# Altium integrated library Analog Devices Data Converters Digital-to-Analog Converters.IntLib: 2231 symbols (part 25 of 181)
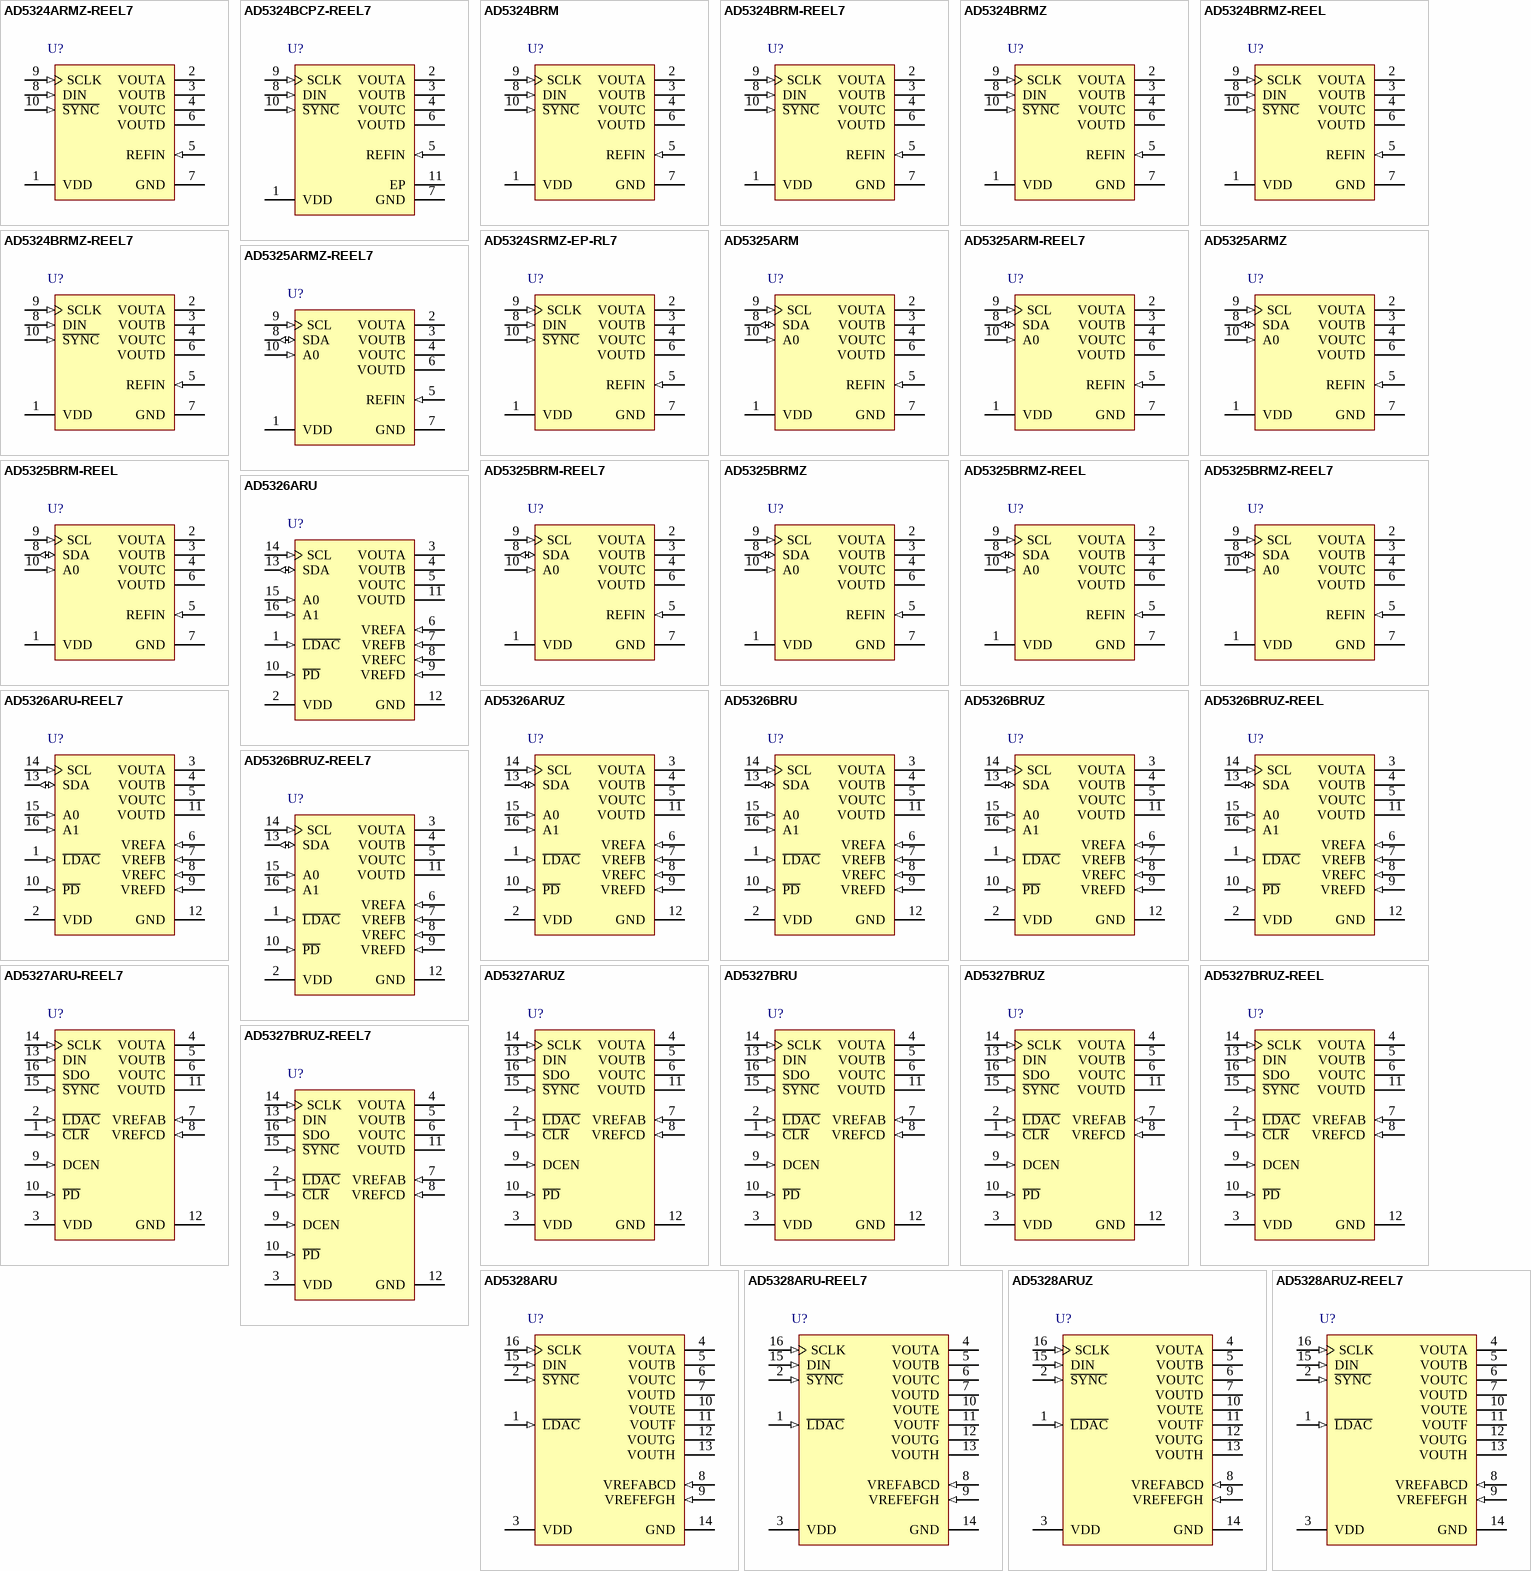
[diagram p138: symbols AD5324ARMZ-REEL7 to AD5328ARUZ-REEL7]

## AD5327BRUZ-REEL7
designator U?
Quad 12-Bit Voltage Output Digital-to-Analog Converter, 2.5 to 5.5 V, 400 uA, -40 to +105 degC, RU-16, Pb-Free, Reel; Generic Part Number: AD5327; Manufacturer: Analog Devices; PartNumber: AD5327BRUZ-REEL7; # DAC Outputs: 4; Max V+: 5.5V; Op Pwr Diss: 4.5mW; Resolution (Bits): 12; Settling Time: 8µs; Single Supply: Yes; DatasheetVersion: Rev.C; PackageVersion: Nov-2002; PackageReference: RU-16; PackageDescription: 16-Lead Thin Shrink Small Outline Package [TSSOP]; Supplier 1: Digi-Key; Supplier Part Number 1: AD5327BRUZ-REEL7-ND; Supplier 2: Mouser; Supplier Part Number 2: 584-AD5327BRUZ-R7; Packing: Reel; RoHS: Y; Mounting Technology: Surface Mount; Code_JEDEC: MO-153-AB; ComponentLink1Description: Manufacturer URL; ComponentLink1URL: http://www.analog.com/en/index.html; ComponentLink2Description: Datasheet; ComponentLink2URL: http://www.analog.com/static/imported-files/data_sheets/AD5307_5317_5327.pdf; ComponentLink3Description: Package Specification; ComponentLink3URL: http://www.analog.com/static/imported-files/packages/36244347913743854010197452789RU16.pdf; ComponentLink4Description: Product URL; ComponentLink4URL: http://www.analog.com/en/digital-to-analog-converters/da-converters/ad5327/products/product.html
footprint RU-16_N (TSOP, 16-Leads, Body 5x4.4mm, Pitch 0.65mm, IPC Medium Density)
footprint RU-16_L (TSOP, 16-Leads, Body 5x4.4mm, Pitch 0.65mm, IPC High Density)
footprint RU-16_M (TSOP, 16-Leads, Body 5x4.4mm, Pitch 0.65mm, IPC Low Density)
pins: 1 ~{CLR} (in) "Active Low Control Input. Loads all 0s to all input and DAC registers. Therefore, the outputs also go to 0 V.", 2 ~{LDAC} (in) "Active Low Control Input. Transfers the contents of the input registers to their respective DAC registers. Pulsing this pin low allows any or all DAC registers to be updated if the input registers have new data. This allows (See Datasheet)", 3 VDD (power) "Power Supply Input. These parts can be operated from 2.5 V to 5.5 V, and the supply should be decoupled with a 10 uF capacitor in parallel with a 0.1 uF capacitor to GND.", 4 VOUTA (hiz) "Buffered Analog Output Voltage from DAC A. The output amplifier has rail-to-rail operation.", 5 VOUTB (hiz) "Buffered Analog Output Voltage from DAC B. The output amplifier has rail-to-rail operation.", 6 VOUTC (hiz) "Buffered Analog Output Voltage from DAC C. The output amplifier has rail-to-rail operation.", 7 VREFAB (in) "Reference Input Pin for DAC A and DAC B. It can be configured as a buffered or unbuffered input to each or both of the DACs, depending on the state of the BUF bits in the serial input words to DAC A and DAC B. It has an (See Datasheet)", 8 VREFCD (in) "Reference Input Pin for DAC C and DAC D. It can be configured as a buffered or unbuffered input to each or both of the DACs, depending on the state of the BUF bits in the serial input words to DAC C and DAC D. It has an (See Datasheet)", 9 DCEN (in) "Enables the Daisy-Chaining Option. It should be tied high if the part is being used in a daisy chain, and tied low if it is being used in standalone mode.", 10 ~{PD} (in) "Active Low Control Input. It acts like a hardware power-down option. All DACs go into power-down mode when this pin is tied low. The DAC outputs go into a high impedance state, and the current consumption of the part drops (See Datasheet)", 11 VOUTD (hiz) "Buffered Analog Output Voltage from DAC D. The output amplifier has rail-to-rail operation.", 12 GND (power) "Ground Reference Point for All Circuitry on the Part.", 13 DIN (in) "Serial Data Input. These devices each have a 16-bit shift register. Data is clocked into the register on the falling edge of the serial clock input. The DIN input buffer is powered down after each write cycle.", 14 SCLK (in) "Serial Clock Input. Data is clocked into the input shift register on the falling edge of the serial clock input. Data can be transferred at rates of up to 30 MHz. The SCLK input buffer is powered down after each write cycle.", 15 ~{SYNC} (in) "Active Low Control Input. This is the frame synchronization signal for the input data. When S\Y\N\C\ goes low, it powers on the SCLK and DIN buffers and enables the input shift register. Data is transferred in on the falling (See Datasheet)", 16 SDO (hiz) "Serial Data Output. Can be used for daisy-chaining a number of these devices together or for reading back the data in the shift register for diagnostic purposes. The serial data is transferred on the rising edge of SCLK and (See Datasheet)"

## AD5328ARU
designator U?
Octal 12-Bit Voltage Output Digital-to-Analog Converter, 2.5 to 5.5 V, -40 to +125 degC, RU-16, Tube; Generic Part Number: AD5328; Manufacturer: Analog Devices; PartNumber: AD5328ARU; # DAC Outputs: 8; Max V+: 5.5V; Op Pwr Diss: 5mW; Resolution (Bits): 12; Settling Time: 6µs; Single Supply: Yes; DatasheetVersion: Rev.F; PackageVersion: Nov-2002; PackageReference: RU-16; PackageDescription: 16-Lead Thin Shrink Small Outline Package [TSSOP]; Supplier 1: Digi-Key; Supplier Part Number 1: AD5328ARU-ND; Supplier 2: Mouser; Supplier Part Number 2: 584-AD5328ARU; Packing: Tube; RoHS: N; Mounting Technology: Surface Mount; Code_JEDEC: MO-153-AB; ComponentLink1Description: Manufacturer URL; ComponentLink1URL: http://www.analog.com/en/index.html; ComponentLink2Description: Datasheet; ComponentLink2URL: http://www.analog.com/static/imported-files/data_sheets/AD5308_5318_5328.pdf; ComponentLink3Description: Package Specification; ComponentLink3URL: http://www.analog.com/static/imported-files/packages/36244347913743854010197452789RU16.pdf; ComponentLink4Description: Product URL; ComponentLink4URL: http://www.analog.com/en/digital-to-analog-converters/da-converters/ad5328/products/product.html
footprint RU-16_N (TSOP, 16-Leads, Body 5x4.4mm, Pitch 0.65mm, IPC Medium Density)
footprint RU-16_L (TSOP, 16-Leads, Body 5x4.4mm, Pitch 0.65mm, IPC High Density)
footprint RU-16_M (TSOP, 16-Leads, Body 5x4.4mm, Pitch 0.65mm, IPC Low Density)
pins: 1 ~{LDAC} (in) "This active low control input transfers the contents of the input registers to their respective DAC registers. Pulsing this pin low allows any or all DAC registers to be updated if the input registers have new data. This (See Datasheet)", 2 ~{SYNC} (in) "Active Low Control Input. This is the frame synchronization signal for the input data. When S\Y\N\C\ goes low, it powers on the SCLK and DIN buffers and enables the input shift register. Data is transferred in on the falling (See Datasheet)", 3 VDD (power) "Power Supply Input. These parts can be operated from 2.5 V to 5.5 V, and the supply should be decoupled with a 10 uF capacitor in parallel with a 0.1 uF capacitor to GND.", 4 VOUTA (hiz) "Buffered Analog Output Voltage from DAC A. The output amplifier has rail-to-rail operation.", 5 VOUTB (hiz) "Buffered Analog Output Voltage from DAC B. The output amplifier has rail-to-rail operation.", 6 VOUTC (hiz) "Buffered Analog Output Voltage from DAC C. The output amplifier has rail-to-rail operation.", 7 VOUTD (hiz) "Buffered Analog Output Voltage from DAC D. The output amplifier has rail-to-rail operation.", 8 VREFABCD (in) "Reference Input Pin for DACs A, B, C, and D. It can be configured as a buffered, unbuffered, or VDD input to the four DACs, depending on the state of the BUF and VDD control bits. It has an input range from 0.25 V to VDD in (See Datasheet)", 9 VREFEFGH (in) "Reference Input Pin for DACs E, F, G, and H. It can be configured as a buffered, unbuffered, or VDD input to the four DACs, depending on the state of the BUF and VDD control bits. It has an input range from 0.25 V to VDD in (See Datasheet)", 10 VOUTE (hiz) "Buffered Analog Output Voltage from DAC E. The output amplifier has rail-to-rail operation.", 11 VOUTF (hiz) "Buffered Analog Output Voltage from DAC F. The output amplifier has rail-to-rail operation.", 12 VOUTG (hiz) "Buffered Analog Output Voltage from DAC G. The output amplifier has rail-to-rail operation.", 13 VOUTH (hiz) "Buffered Analog Output Voltage from DAC H. The output amplifier has rail-to-rail operation.", 14 GND (power) "Ground Reference Point for All Circuitry on the Part.", 15 DIN (in) "Serial Data Input. This device has a 16-bit shift register. Data is clocked into the register on the falling edge of the serial clock input. The DIN input buffer is powered down after each write cycle.", 16 SCLK (in) "Serial Clock Input. Data is clocked into the input shift register on the falling edge of the serial clock input. Data can be transferred at rates up to 30 MHz. The SCLK input buffer is powered down after each write cycle."

## AD5328ARU-REEL7
designator U?
Octal 12-Bit Voltage Output Digital-to-Analog Converter, 2.5 to 5.5 V, -40 to +125 degC, RU-16, Reel; Generic Part Number: AD5328; Manufacturer: Analog Devices; PartNumber: AD5328ARU-REEL7; # DAC Outputs: 8; Max V+: 5.5V; Op Pwr Diss: 5mW; Resolution (Bits): 12; Settling Time: 6µs; Single Supply: Yes; DatasheetVersion: Rev.F; PackageVersion: Nov-2002; PackageReference: RU-16; PackageDescription: 16-Lead Thin Shrink Small Outline Package [TSSOP]; Supplier 1: Mouser; Supplier Part Number 1: N/A; Packing: Reel; RoHS: N; Mounting Technology: Surface Mount; Code_JEDEC: MO-153-AB; ComponentLink1Description: Manufacturer URL; ComponentLink1URL: http://www.analog.com/en/index.html; ComponentLink2Description: Datasheet; ComponentLink2URL: http://www.analog.com/static/imported-files/data_sheets/AD5308_5318_5328.pdf; ComponentLink3Description: Package Specification; ComponentLink3URL: http://www.analog.com/static/imported-files/packages/36244347913743854010197452789RU16.pdf; ComponentLink4Description: Product URL; ComponentLink4URL: http://www.analog.com/en/digital-to-analog-converters/da-converters/ad5328/products/product.html
footprint RU-16_N (TSOP, 16-Leads, Body 5x4.4mm, Pitch 0.65mm, IPC Medium Density)
footprint RU-16_L (TSOP, 16-Leads, Body 5x4.4mm, Pitch 0.65mm, IPC High Density)
footprint RU-16_M (TSOP, 16-Leads, Body 5x4.4mm, Pitch 0.65mm, IPC Low Density)
pins: 1 ~{LDAC} (in) "This active low control input transfers the contents of the input registers to their respective DAC registers. Pulsing this pin low allows any or all DAC registers to be updated if the input registers have new data. This (See Datasheet)", 2 ~{SYNC} (in) "Active Low Control Input. This is the frame synchronization signal for the input data. When S\Y\N\C\ goes low, it powers on the SCLK and DIN buffers and enables the input shift register. Data is transferred in on the falling (See Datasheet)", 3 VDD (power) "Power Supply Input. These parts can be operated from 2.5 V to 5.5 V, and the supply should be decoupled with a 10 uF capacitor in parallel with a 0.1 uF capacitor to GND.", 4 VOUTA (hiz) "Buffered Analog Output Voltage from DAC A. The output amplifier has rail-to-rail operation.", 5 VOUTB (hiz) "Buffered Analog Output Voltage from DAC B. The output amplifier has rail-to-rail operation.", 6 VOUTC (hiz) "Buffered Analog Output Voltage from DAC C. The output amplifier has rail-to-rail operation.", 7 VOUTD (hiz) "Buffered Analog Output Voltage from DAC D. The output amplifier has rail-to-rail operation.", 8 VREFABCD (in) "Reference Input Pin for DACs A, B, C, and D. It can be configured as a buffered, unbuffered, or VDD input to the four DACs, depending on the state of the BUF and VDD control bits. It has an input range from 0.25 V to VDD in (See Datasheet)", 9 VREFEFGH (in) "Reference Input Pin for DACs E, F, G, and H. It can be configured as a buffered, unbuffered, or VDD input to the four DACs, depending on the state of the BUF and VDD control bits. It has an input range from 0.25 V to VDD in (See Datasheet)", 10 VOUTE (hiz) "Buffered Analog Output Voltage from DAC E. The output amplifier has rail-to-rail operation.", 11 VOUTF (hiz) "Buffered Analog Output Voltage from DAC F. The output amplifier has rail-to-rail operation.", 12 VOUTG (hiz) "Buffered Analog Output Voltage from DAC G. The output amplifier has rail-to-rail operation.", 13 VOUTH (hiz) "Buffered Analog Output Voltage from DAC H. The output amplifier has rail-to-rail operation.", 14 GND (power) "Ground Reference Point for All Circuitry on the Part.", 15 DIN (in) "Serial Data Input. This device has a 16-bit shift register. Data is clocked into the register on the falling edge of the serial clock input. The DIN input buffer is powered down after each write cycle.", 16 SCLK (in) "Serial Clock Input. Data is clocked into the input shift register on the falling edge of the serial clock input. Data can be transferred at rates up to 30 MHz. The SCLK input buffer is powered down after each write cycle."

## AD5328ARUZ
designator U?
Octal 12-Bit Voltage Output Digital-to-Analog Converter, 2.5 to 5.5 V, -40 to +125 degC, RU-16, Pb-Free, Tube; Generic Part Number: AD5328; Manufacturer: Analog Devices; PartNumber: AD5328ARUZ; # DAC Outputs: 8; Max V+: 5.5V; Op Pwr Diss: 5mW; Resolution (Bits): 12; Settling Time: 6µs; Single Supply: Yes; DatasheetVersion: Rev.F; PackageVersion: Nov-2002; PackageReference: RU-16; PackageDescription: 16-Lead Thin Shrink Small Outline Package [TSSOP]; Supplier 1: Digi-Key; Supplier Part Number 1: AD5328ARUZ-ND; Supplier 2: Farnell; Supplier Part Number 2: 1438369; Supplier 3: Newark; Supplier Part Number 3: 59K3952; Supplier 4: Mouser; Supplier Part Number 4: 584-AD5328ARUZ; Packing: Tube; RoHS: Y; Mounting Technology: Surface Mount; Code_JEDEC: MO-153-AB; ComponentLink1Description: Manufacturer URL; ComponentLink1URL: http://www.analog.com/en/index.html; ComponentLink2Description: Datasheet; ComponentLink2URL: http://www.analog.com/static/imported-files/data_sheets/AD5308_5318_5328.pdf; ComponentLink3Description: Package Specification; ComponentLink3URL: http://www.analog.com/static/imported-files/packages/36244347913743854010197452789RU16.pdf; ComponentLink4Description: Product URL; ComponentLink4URL: http://www.analog.com/en/digital-to-analog-converters/da-converters/ad5328/products/product.html
footprint RU-16_N (TSOP, 16-Leads, Body 5x4.4mm, Pitch 0.65mm, IPC Medium Density)
footprint RU-16_L (TSOP, 16-Leads, Body 5x4.4mm, Pitch 0.65mm, IPC High Density)
footprint RU-16_M (TSOP, 16-Leads, Body 5x4.4mm, Pitch 0.65mm, IPC Low Density)
pins: 1 ~{LDAC} (in) "This active low control input transfers the contents of the input registers to their respective DAC registers. Pulsing this pin low allows any or all DAC registers to be updated if the input registers have new data. This (See Datasheet)", 2 ~{SYNC} (in) "Active Low Control Input. This is the frame synchronization signal for the input data. When S\Y\N\C\ goes low, it powers on the SCLK and DIN buffers and enables the input shift register. Data is transferred in on the falling (See Datasheet)", 3 VDD (power) "Power Supply Input. These parts can be operated from 2.5 V to 5.5 V, and the supply should be decoupled with a 10 uF capacitor in parallel with a 0.1 uF capacitor to GND.", 4 VOUTA (hiz) "Buffered Analog Output Voltage from DAC A. The output amplifier has rail-to-rail operation.", 5 VOUTB (hiz) "Buffered Analog Output Voltage from DAC B. The output amplifier has rail-to-rail operation.", 6 VOUTC (hiz) "Buffered Analog Output Voltage from DAC C. The output amplifier has rail-to-rail operation.", 7 VOUTD (hiz) "Buffered Analog Output Voltage from DAC D. The output amplifier has rail-to-rail operation.", 8 VREFABCD (in) "Reference Input Pin for DACs A, B, C, and D. It can be configured as a buffered, unbuffered, or VDD input to the four DACs, depending on the state of the BUF and VDD control bits. It has an input range from 0.25 V to VDD in (See Datasheet)", 9 VREFEFGH (in) "Reference Input Pin for DACs E, F, G, and H. It can be configured as a buffered, unbuffered, or VDD input to the four DACs, depending on the state of the BUF and VDD control bits. It has an input range from 0.25 V to VDD in (See Datasheet)", 10 VOUTE (hiz) "Buffered Analog Output Voltage from DAC E. The output amplifier has rail-to-rail operation.", 11 VOUTF (hiz) "Buffered Analog Output Voltage from DAC F. The output amplifier has rail-to-rail operation.", 12 VOUTG (hiz) "Buffered Analog Output Voltage from DAC G. The output amplifier has rail-to-rail operation.", 13 VOUTH (hiz) "Buffered Analog Output Voltage from DAC H. The output amplifier has rail-to-rail operation.", 14 GND (power) "Ground Reference Point for All Circuitry on the Part.", 15 DIN (in) "Serial Data Input. This device has a 16-bit shift register. Data is clocked into the register on the falling edge of the serial clock input. The DIN input buffer is powered down after each write cycle.", 16 SCLK (in) "Serial Clock Input. Data is clocked into the input shift register on the falling edge of the serial clock input. Data can be transferred at rates up to 30 MHz. The SCLK input buffer is powered down after each write cycle."

## AD5328ARUZ-REEL7
designator U?
Octal 12-Bit Voltage Output Digital-to-Analog Converter, 2.5 to 5.5 V, -40 to +125 degC, RU-16, Pb-Free, Reel; Generic Part Number: AD5328; Manufacturer: Analog Devices; PartNumber: AD5328ARUZ-REEL7; # DAC Outputs: 8; Max V+: 5.5V; Op Pwr Diss: 5mW; Resolution (Bits): 12; Settling Time: 6µs; Single Supply: Yes; DatasheetVersion: Rev.F; PackageVersion: Nov-2002; PackageReference: RU-16; PackageDescription: 16-Lead Thin Shrink Small Outline Package [TSSOP]; Supplier 1: Digi-Key; Supplier Part Number 1: AD5328ARUZ-REEL7TR-ND; Supplier 2: Digi-Key; Supplier Part Number 2: AD5328ARUZ-REEL7CT-ND; Supplier 3: Digi-Key; Supplier Part Number 3: AD5328ARUZ-REEL7DKR-ND; Supplier 4: Newark; Supplier Part Number 4: 59K3953; Supplier 5: Mouser; Supplier Part Number 5: 584-AD5328ARUZ-R7; Packing: Reel; RoHS: Y; Mounting Technology: Surface Mount; Code_JEDEC: MO-153-AB; ComponentLink1Description: Manufacturer URL; ComponentLink1URL: http://www.analog.com/en/index.html; ComponentLink2Description: Datasheet; ComponentLink2URL: http://www.analog.com/static/imported-files/data_sheets/AD5308_5318_5328.pdf; ComponentLink3Description: Package Specification; ComponentLink3URL: http://www.analog.com/static/imported-files/packages/36244347913743854010197452789RU16.pdf; ComponentLink4Description: Product URL; ComponentLink4URL: http://www.analog.com/en/digital-to-analog-converters/da-converters/ad5328/products/product.html
footprint RU-16_N (TSOP, 16-Leads, Body 5x4.4mm, Pitch 0.65mm, IPC Medium Density)
footprint RU-16_L (TSOP, 16-Leads, Body 5x4.4mm, Pitch 0.65mm, IPC High Density)
footprint RU-16_M (TSOP, 16-Leads, Body 5x4.4mm, Pitch 0.65mm, IPC Low Density)
pins: 1 ~{LDAC} (in) "This active low control input transfers the contents of the input registers to their respective DAC registers. Pulsing this pin low allows any or all DAC registers to be updated if the input registers have new data. This (See Datasheet)", 2 ~{SYNC} (in) "Active Low Control Input. This is the frame synchronization signal for the input data. When S\Y\N\C\ goes low, it powers on the SCLK and DIN buffers and enables the input shift register. Data is transferred in on the falling (See Datasheet)", 3 VDD (power) "Power Supply Input. These parts can be operated from 2.5 V to 5.5 V, and the supply should be decoupled with a 10 uF capacitor in parallel with a 0.1 uF capacitor to GND.", 4 VOUTA (hiz) "Buffered Analog Output Voltage from DAC A. The output amplifier has rail-to-rail operation.", 5 VOUTB (hiz) "Buffered Analog Output Voltage from DAC B. The output amplifier has rail-to-rail operation.", 6 VOUTC (hiz) "Buffered Analog Output Voltage from DAC C. The output amplifier has rail-to-rail operation.", 7 VOUTD (hiz) "Buffered Analog Output Voltage from DAC D. The output amplifier has rail-to-rail operation.", 8 VREFABCD (in) "Reference Input Pin for DACs A, B, C, and D. It can be configured as a buffered, unbuffered, or VDD input to the four DACs, depending on the state of the BUF and VDD control bits. It has an input range from 0.25 V to VDD in (See Datasheet)", 9 VREFEFGH (in) "Reference Input Pin for DACs E, F, G, and H. It can be configured as a buffered, unbuffered, or VDD input to the four DACs, depending on the state of the BUF and VDD control bits. It has an input range from 0.25 V to VDD in (See Datasheet)", 10 VOUTE (hiz) "Buffered Analog Output Voltage from DAC E. The output amplifier has rail-to-rail operation.", 11 VOUTF (hiz) "Buffered Analog Output Voltage from DAC F. The output amplifier has rail-to-rail operation.", 12 VOUTG (hiz) "Buffered Analog Output Voltage from DAC G. The output amplifier has rail-to-rail operation.", 13 VOUTH (hiz) "Buffered Analog Output Voltage from DAC H. The output amplifier has rail-to-rail operation.", 14 GND (power) "Ground Reference Point for All Circuitry on the Part.", 15 DIN (in) "Serial Data Input. This device has a 16-bit shift register. Data is clocked into the register on the falling edge of the serial clock input. The DIN input buffer is powered down after each write cycle.", 16 SCLK (in) "Serial Clock Input. Data is clocked into the input shift register on the falling edge of the serial clock input. Data can be transferred at rates up to 30 MHz. The SCLK input buffer is powered down after each write cycle."

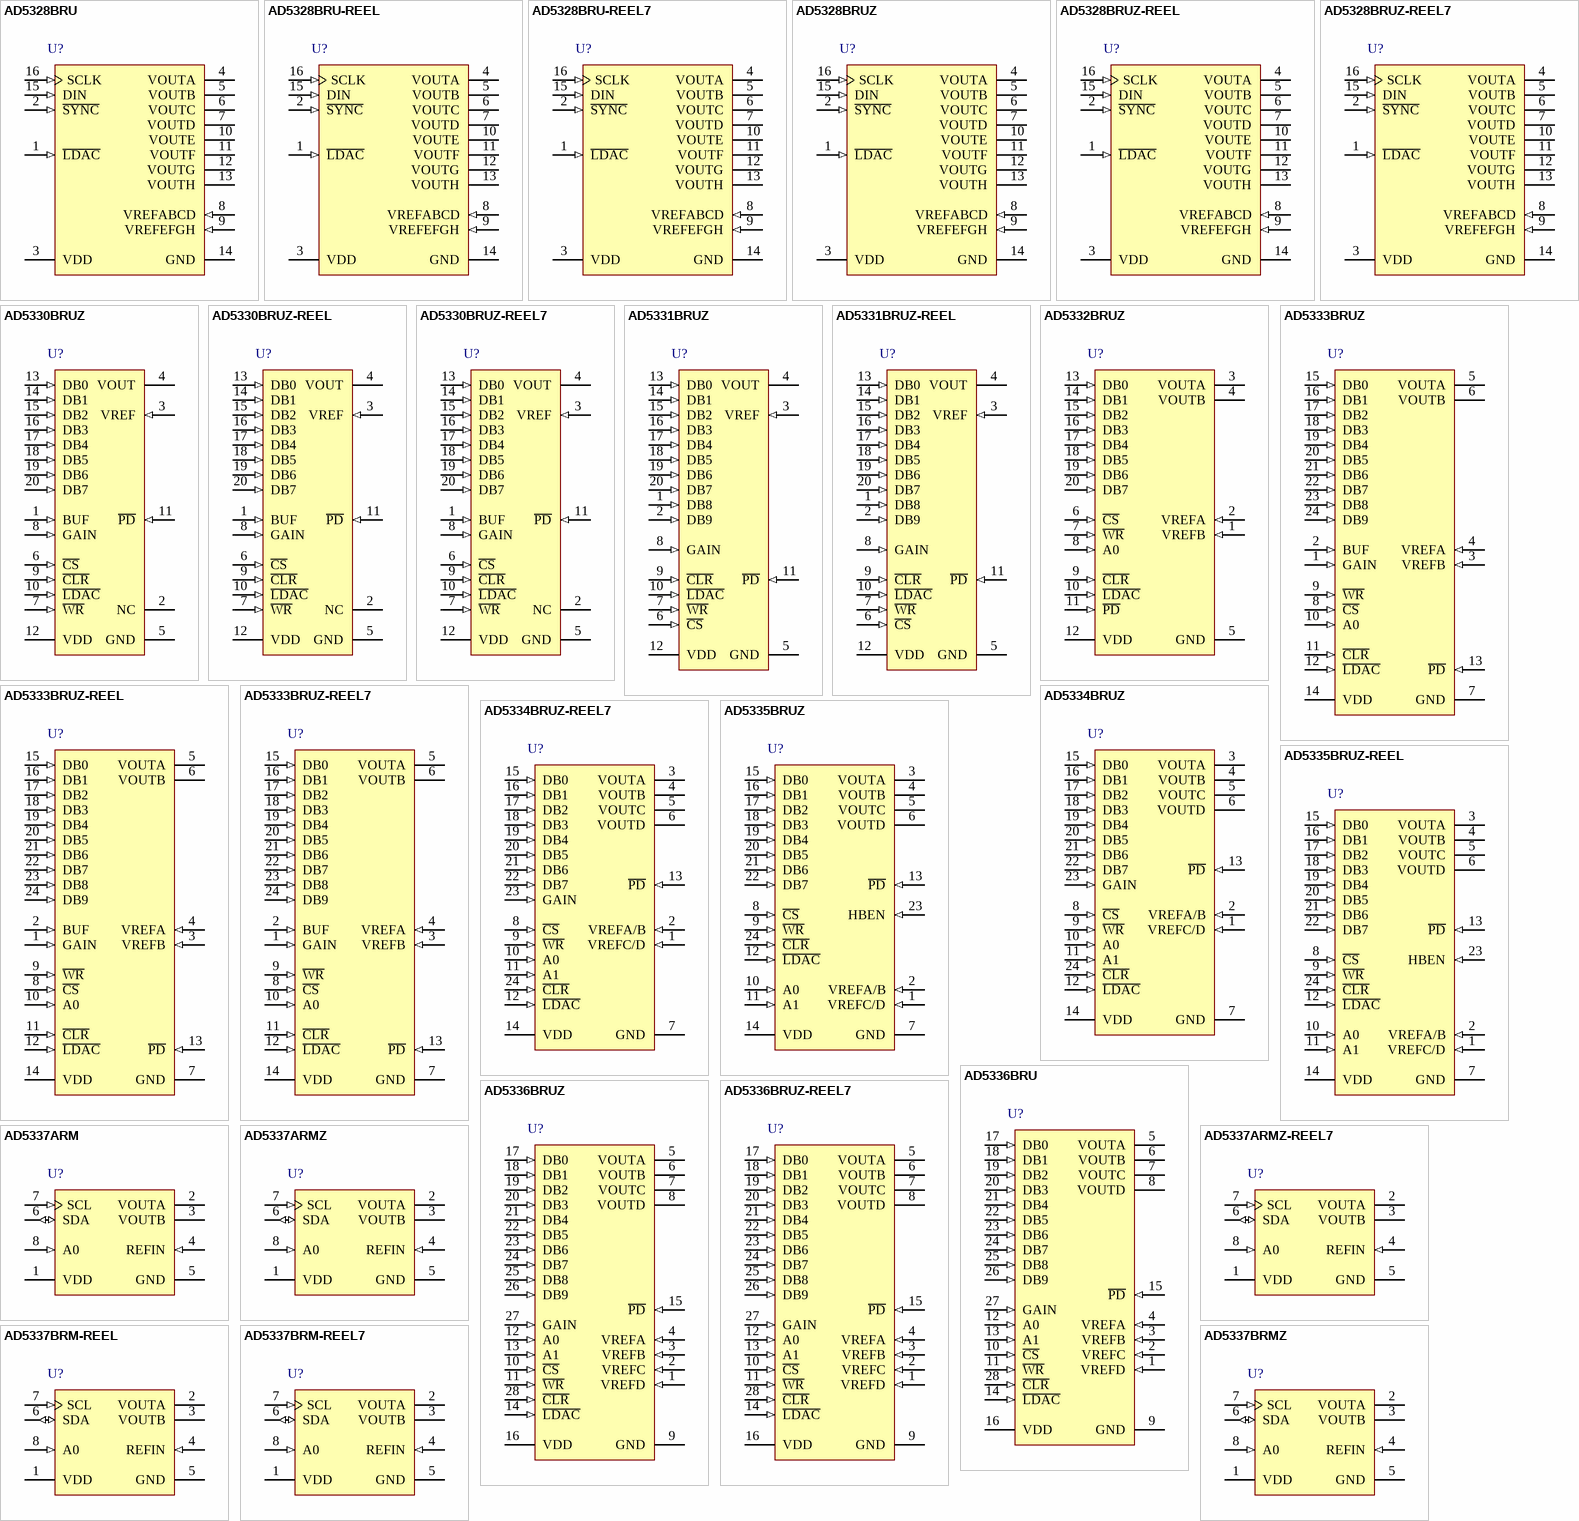
[diagram p15: symbols AD5328BRU to AD5337BRMZ]

## AD5328BRU
designator U?
Octal 12-Bit Voltage Output Digital-to-Analog Converter, 2.5 to 5.5 V, -40 to +125 degC, RU-16, Tube; Generic Part Number: AD5328; Manufacturer: Analog Devices; PartNumber: AD5328BRU; # DAC Outputs: 8; Max V+: 5.5V; Op Pwr Diss: 5mW; Resolution (Bits): 12; Settling Time: 6µs; Single Supply: Yes; DatasheetVersion: Rev.F; PackageVersion: Nov-2002; PackageReference: RU-16; PackageDescription: 16-Lead Thin Shrink Small Outline Package [TSSOP]; Supplier 1: Digi-Key; Supplier Part Number 1: AD5328BRU-ND; Supplier 2: Mouser; Supplier Part Number 2: 584-AD5328BRU; Packing: Tube; RoHS: N; Mounting Technology: Surface Mount; Code_JEDEC: MO-153-AB; ComponentLink1Description: Manufacturer URL; ComponentLink1URL: http://www.analog.com/en/index.html; ComponentLink2Description: Datasheet; ComponentLink2URL: http://www.analog.com/static/imported-files/data_sheets/AD5308_5318_5328.pdf; ComponentLink3Description: Package Specification; ComponentLink3URL: http://www.analog.com/static/imported-files/packages/36244347913743854010197452789RU16.pdf; ComponentLink4Description: Product URL; ComponentLink4URL: http://www.analog.com/en/digital-to-analog-converters/da-converters/ad5328/products/product.html
footprint RU-16_N (TSOP, 16-Leads, Body 5x4.4mm, Pitch 0.65mm, IPC Medium Density)
footprint RU-16_L (TSOP, 16-Leads, Body 5x4.4mm, Pitch 0.65mm, IPC High Density)
footprint RU-16_M (TSOP, 16-Leads, Body 5x4.4mm, Pitch 0.65mm, IPC Low Density)
pins: 1 ~{LDAC} (in) "This active low control input transfers the contents of the input registers to their respective DAC registers. Pulsing this pin low allows any or all DAC registers to be updated if the input registers have new data. This (See Datasheet)", 2 ~{SYNC} (in) "Active Low Control Input. This is the frame synchronization signal for the input data. When S\Y\N\C\ goes low, it powers on the SCLK and DIN buffers and enables the input shift register. Data is transferred in on the falling (See Datasheet)", 3 VDD (power) "Power Supply Input. These parts can be operated from 2.5 V to 5.5 V, and the supply should be decoupled with a 10 uF capacitor in parallel with a 0.1 uF capacitor to GND.", 4 VOUTA (hiz) "Buffered Analog Output Voltage from DAC A. The output amplifier has rail-to-rail operation.", 5 VOUTB (hiz) "Buffered Analog Output Voltage from DAC B. The output amplifier has rail-to-rail operation.", 6 VOUTC (hiz) "Buffered Analog Output Voltage from DAC C. The output amplifier has rail-to-rail operation.", 7 VOUTD (hiz) "Buffered Analog Output Voltage from DAC D. The output amplifier has rail-to-rail operation.", 8 VREFABCD (in) "Reference Input Pin for DACs A, B, C, and D. It can be configured as a buffered, unbuffered, or VDD input to the four DACs, depending on the state of the BUF and VDD control bits. It has an input range from 0.25 V to VDD in (See Datasheet)", 9 VREFEFGH (in) "Reference Input Pin for DACs E, F, G, and H. It can be configured as a buffered, unbuffered, or VDD input to the four DACs, depending on the state of the BUF and VDD control bits. It has an input range from 0.25 V to VDD in (See Datasheet)", 10 VOUTE (hiz) "Buffered Analog Output Voltage from DAC E. The output amplifier has rail-to-rail operation.", 11 VOUTF (hiz) "Buffered Analog Output Voltage from DAC F. The output amplifier has rail-to-rail operation.", 12 VOUTG (hiz) "Buffered Analog Output Voltage from DAC G. The output amplifier has rail-to-rail operation.", 13 VOUTH (hiz) "Buffered Analog Output Voltage from DAC H. The output amplifier has rail-to-rail operation.", 14 GND (power) "Ground Reference Point for All Circuitry on the Part.", 15 DIN (in) "Serial Data Input. This device has a 16-bit shift register. Data is clocked into the register on the falling edge of the serial clock input. The DIN input buffer is powered down after each write cycle.", 16 SCLK (in) "Serial Clock Input. Data is clocked into the input shift register on the falling edge of the serial clock input. Data can be transferred at rates up to 30 MHz. The SCLK input buffer is powered down after each write cycle."

## AD5328BRU-REEL
designator U?
Octal 12-Bit Voltage Output Digital-to-Analog Converter, 2.5 to 5.5 V, -40 to +125 degC, RU-16, Reel; Generic Part Number: AD5328; Manufacturer: Analog Devices; PartNumber: AD5328BRU-REEL; # DAC Outputs: 8; Max V+: 5.5V; Op Pwr Diss: 5mW; Resolution (Bits): 12; Settling Time: 6µs; Single Supply: Yes; DatasheetVersion: Rev.F; PackageVersion: Nov-2002; PackageReference: RU-16; PackageDescription: 16-Lead Thin Shrink Small Outline Package [TSSOP]; Supplier 1: Mouser; Supplier Part Number 1: N/A; Packing: Reel; RoHS: N; Mounting Technology: Surface Mount; Code_JEDEC: MO-153-AB; ComponentLink1Description: Manufacturer URL; ComponentLink1URL: http://www.analog.com/en/index.html; ComponentLink2Description: Datasheet; ComponentLink2URL: http://www.analog.com/static/imported-files/data_sheets/AD5308_5318_5328.pdf; ComponentLink3Description: Package Specification; ComponentLink3URL: http://www.analog.com/static/imported-files/packages/36244347913743854010197452789RU16.pdf; ComponentLink4Description: Product URL; ComponentLink4URL: http://www.analog.com/en/digital-to-analog-converters/da-converters/ad5328/products/product.html
footprint RU-16_N (TSOP, 16-Leads, Body 5x4.4mm, Pitch 0.65mm, IPC Medium Density)
footprint RU-16_L (TSOP, 16-Leads, Body 5x4.4mm, Pitch 0.65mm, IPC High Density)
footprint RU-16_M (TSOP, 16-Leads, Body 5x4.4mm, Pitch 0.65mm, IPC Low Density)
pins: 1 ~{LDAC} (in) "This active low control input transfers the contents of the input registers to their respective DAC registers. Pulsing this pin low allows any or all DAC registers to be updated if the input registers have new data. This (See Datasheet)", 2 ~{SYNC} (in) "Active Low Control Input. This is the frame synchronization signal for the input data. When S\Y\N\C\ goes low, it powers on the SCLK and DIN buffers and enables the input shift register. Data is transferred in on the falling (See Datasheet)", 3 VDD (power) "Power Supply Input. These parts can be operated from 2.5 V to 5.5 V, and the supply should be decoupled with a 10 uF capacitor in parallel with a 0.1 uF capacitor to GND.", 4 VOUTA (hiz) "Buffered Analog Output Voltage from DAC A. The output amplifier has rail-to-rail operation.", 5 VOUTB (hiz) "Buffered Analog Output Voltage from DAC B. The output amplifier has rail-to-rail operation.", 6 VOUTC (hiz) "Buffered Analog Output Voltage from DAC C. The output amplifier has rail-to-rail operation.", 7 VOUTD (hiz) "Buffered Analog Output Voltage from DAC D. The output amplifier has rail-to-rail operation.", 8 VREFABCD (in) "Reference Input Pin for DACs A, B, C, and D. It can be configured as a buffered, unbuffered, or VDD input to the four DACs, depending on the state of the BUF and VDD control bits. It has an input range from 0.25 V to VDD in (See Datasheet)", 9 VREFEFGH (in) "Reference Input Pin for DACs E, F, G, and H. It can be configured as a buffered, unbuffered, or VDD input to the four DACs, depending on the state of the BUF and VDD control bits. It has an input range from 0.25 V to VDD in (See Datasheet)", 10 VOUTE (hiz) "Buffered Analog Output Voltage from DAC E. The output amplifier has rail-to-rail operation.", 11 VOUTF (hiz) "Buffered Analog Output Voltage from DAC F. The output amplifier has rail-to-rail operation.", 12 VOUTG (hiz) "Buffered Analog Output Voltage from DAC G. The output amplifier has rail-to-rail operation.", 13 VOUTH (hiz) "Buffered Analog Output Voltage from DAC H. The output amplifier has rail-to-rail operation.", 14 GND (power) "Ground Reference Point for All Circuitry on the Part.", 15 DIN (in) "Serial Data Input. This device has a 16-bit shift register. Data is clocked into the register on the falling edge of the serial clock input. The DIN input buffer is powered down after each write cycle.", 16 SCLK (in) "Serial Clock Input. Data is clocked into the input shift register on the falling edge of the serial clock input. Data can be transferred at rates up to 30 MHz. The SCLK input buffer is powered down after each write cycle."

## AD5328BRU-REEL7
designator U?
Octal 12-Bit Voltage Output Digital-to-Analog Converter, 2.5 to 5.5 V, -40 to +125 degC, RU-16, Reel; Generic Part Number: AD5328; Manufacturer: Analog Devices; PartNumber: AD5328BRU-REEL7; # DAC Outputs: 8; Max V+: 5.5V; Op Pwr Diss: 5mW; Resolution (Bits): 12; Settling Time: 6µs; Single Supply: Yes; DatasheetVersion: Rev.F; PackageVersion: Nov-2002; PackageReference: RU-16; PackageDescription: 16-Lead Thin Shrink Small Outline Package [TSSOP]; Supplier 1: Digi-Key; Supplier Part Number 1: AD5328BRU-REEL7-ND; Supplier 2: Newark; Supplier Part Number 2: 02H1477; Supplier 3: Mouser; Supplier Part Number 3: 584-AD5328BRU-R7; Packing: Reel; RoHS: N; Mounting Technology: Surface Mount; Code_JEDEC: MO-153-AB; ComponentLink1Description: Manufacturer URL; ComponentLink1URL: http://www.analog.com/en/index.html; ComponentLink2Description: Datasheet; ComponentLink2URL: http://www.analog.com/static/imported-files/data_sheets/AD5308_5318_5328.pdf; ComponentLink3Description: Package Specification; ComponentLink3URL: http://www.analog.com/static/imported-files/packages/36244347913743854010197452789RU16.pdf; ComponentLink4Description: Product URL; ComponentLink4URL: http://www.analog.com/en/digital-to-analog-converters/da-converters/ad5328/products/product.html
footprint RU-16_N (TSOP, 16-Leads, Body 5x4.4mm, Pitch 0.65mm, IPC Medium Density)
footprint RU-16_L (TSOP, 16-Leads, Body 5x4.4mm, Pitch 0.65mm, IPC High Density)
footprint RU-16_M (TSOP, 16-Leads, Body 5x4.4mm, Pitch 0.65mm, IPC Low Density)
pins: 1 ~{LDAC} (in) "This active low control input transfers the contents of the input registers to their respective DAC registers. Pulsing this pin low allows any or all DAC registers to be updated if the input registers have new data. This (See Datasheet)", 2 ~{SYNC} (in) "Active Low Control Input. This is the frame synchronization signal for the input data. When S\Y\N\C\ goes low, it powers on the SCLK and DIN buffers and enables the input shift register. Data is transferred in on the falling (See Datasheet)", 3 VDD (power) "Power Supply Input. These parts can be operated from 2.5 V to 5.5 V, and the supply should be decoupled with a 10 uF capacitor in parallel with a 0.1 uF capacitor to GND.", 4 VOUTA (hiz) "Buffered Analog Output Voltage from DAC A. The output amplifier has rail-to-rail operation.", 5 VOUTB (hiz) "Buffered Analog Output Voltage from DAC B. The output amplifier has rail-to-rail operation.", 6 VOUTC (hiz) "Buffered Analog Output Voltage from DAC C. The output amplifier has rail-to-rail operation.", 7 VOUTD (hiz) "Buffered Analog Output Voltage from DAC D. The output amplifier has rail-to-rail operation.", 8 VREFABCD (in) "Reference Input Pin for DACs A, B, C, and D. It can be configured as a buffered, unbuffered, or VDD input to the four DACs, depending on the state of the BUF and VDD control bits. It has an input range from 0.25 V to VDD in (See Datasheet)", 9 VREFEFGH (in) "Reference Input Pin for DACs E, F, G, and H. It can be configured as a buffered, unbuffered, or VDD input to the four DACs, depending on the state of the BUF and VDD control bits. It has an input range from 0.25 V to VDD in (See Datasheet)", 10 VOUTE (hiz) "Buffered Analog Output Voltage from DAC E. The output amplifier has rail-to-rail operation.", 11 VOUTF (hiz) "Buffered Analog Output Voltage from DAC F. The output amplifier has rail-to-rail operation.", 12 VOUTG (hiz) "Buffered Analog Output Voltage from DAC G. The output amplifier has rail-to-rail operation.", 13 VOUTH (hiz) "Buffered Analog Output Voltage from DAC H. The output amplifier has rail-to-rail operation.", 14 GND (power) "Ground Reference Point for All Circuitry on the Part.", 15 DIN (in) "Serial Data Input. This device has a 16-bit shift register. Data is clocked into the register on the falling edge of the serial clock input. The DIN input buffer is powered down after each write cycle.", 16 SCLK (in) "Serial Clock Input. Data is clocked into the input shift register on the falling edge of the serial clock input. Data can be transferred at rates up to 30 MHz. The SCLK input buffer is powered down after each write cycle."

## AD5328BRUZ
designator U?
Octal 12-Bit Voltage Output Digital-to-Analog Converter, 2.5 to 5.5 V, -40 to +125 degC, RU-16, Pb-Free, Tube; Generic Part Number: AD5328; Manufacturer: Analog Devices; PartNumber: AD5328BRUZ; # DAC Outputs: 8; Max V+: 5.5V; Op Pwr Diss: 5mW; Resolution (Bits): 12; Settling Time: 6µs; Single Supply: Yes; DatasheetVersion: Rev.F; PackageVersion: Nov-2002; PackageReference: RU-16; PackageDescription: 16-Lead Thin Shrink Small Outline Package [TSSOP]; Supplier 1: Digi-Key; Supplier Part Number 1: AD5328BRUZ-ND; Supplier 2: Farnell; Supplier Part Number 2: 1661046; Supplier 3: Newark; Supplier Part Number 3: 59K3954; Supplier 4: Mouser; Supplier Part Number 4: 584-AD5328BRUZ; Packing: Tube; RoHS: Y; Mounting Technology: Surface Mount; Code_JEDEC: MO-153-AB; ComponentLink1Description: Manufacturer URL; ComponentLink1URL: http://www.analog.com/en/index.html; ComponentLink2Description: Datasheet; ComponentLink2URL: http://www.analog.com/static/imported-files/data_sheets/AD5308_5318_5328.pdf; ComponentLink3Description: Package Specification; ComponentLink3URL: http://www.analog.com/static/imported-files/packages/36244347913743854010197452789RU16.pdf; ComponentLink4Description: Product URL; ComponentLink4URL: http://www.analog.com/en/digital-to-analog-converters/da-converters/ad5328/products/product.html
footprint RU-16_N (TSOP, 16-Leads, Body 5x4.4mm, Pitch 0.65mm, IPC Medium Density)
footprint RU-16_L (TSOP, 16-Leads, Body 5x4.4mm, Pitch 0.65mm, IPC High Density)
footprint RU-16_M (TSOP, 16-Leads, Body 5x4.4mm, Pitch 0.65mm, IPC Low Density)
pins: 1 ~{LDAC} (in) "This active low control input transfers the contents of the input registers to their respective DAC registers. Pulsing this pin low allows any or all DAC registers to be updated if the input registers have new data. This (See Datasheet)", 2 ~{SYNC} (in) "Active Low Control Input. This is the frame synchronization signal for the input data. When S\Y\N\C\ goes low, it powers on the SCLK and DIN buffers and enables the input shift register. Data is transferred in on the falling (See Datasheet)", 3 VDD (power) "Power Supply Input. These parts can be operated from 2.5 V to 5.5 V, and the supply should be decoupled with a 10 uF capacitor in parallel with a 0.1 uF capacitor to GND.", 4 VOUTA (hiz) "Buffered Analog Output Voltage from DAC A. The output amplifier has rail-to-rail operation.", 5 VOUTB (hiz) "Buffered Analog Output Voltage from DAC B. The output amplifier has rail-to-rail operation.", 6 VOUTC (hiz) "Buffered Analog Output Voltage from DAC C. The output amplifier has rail-to-rail operation.", 7 VOUTD (hiz) "Buffered Analog Output Voltage from DAC D. The output amplifier has rail-to-rail operation.", 8 VREFABCD (in) "Reference Input Pin for DACs A, B, C, and D. It can be configured as a buffered, unbuffered, or VDD input to the four DACs, depending on the state of the BUF and VDD control bits. It has an input range from 0.25 V to VDD in (See Datasheet)", 9 VREFEFGH (in) "Reference Input Pin for DACs E, F, G, and H. It can be configured as a buffered, unbuffered, or VDD input to the four DACs, depending on the state of the BUF and VDD control bits. It has an input range from 0.25 V to VDD in (See Datasheet)", 10 VOUTE (hiz) "Buffered Analog Output Voltage from DAC E. The output amplifier has rail-to-rail operation.", 11 VOUTF (hiz) "Buffered Analog Output Voltage from DAC F. The output amplifier has rail-to-rail operation.", 12 VOUTG (hiz) "Buffered Analog Output Voltage from DAC G. The output amplifier has rail-to-rail operation.", 13 VOUTH (hiz) "Buffered Analog Output Voltage from DAC H. The output amplifier has rail-to-rail operation.", 14 GND (power) "Ground Reference Point for All Circuitry on the Part.", 15 DIN (in) "Serial Data Input. This device has a 16-bit shift register. Data is clocked into the register on the falling edge of the serial clock input. The DIN input buffer is powered down after each write cycle.", 16 SCLK (in) "Serial Clock Input. Data is clocked into the input shift register on the falling edge of the serial clock input. Data can be transferred at rates up to 30 MHz. The SCLK input buffer is powered down after each write cycle."

## AD5328BRUZ-REEL
designator U?
Octal 12-Bit Voltage Output Digital-to-Analog Converter, 2.5 to 5.5 V, -40 to +125 degC, RU-16, Pb-Free, Reel; Generic Part Number: AD5328; Manufacturer: Analog Devices; PartNumber: AD5328BRUZ-REEL; # DAC Outputs: 8; Max V+: 5.5V; Op Pwr Diss: 5mW; Resolution (Bits): 12; Settling Time: 6µs; Single Supply: Yes; DatasheetVersion: Rev.F; PackageVersion: Nov-2002; PackageReference: RU-16; PackageDescription: 16-Lead Thin Shrink Small Outline Package [TSSOP]; Supplier 1: Digi-Key; Supplier Part Number 1: AD5328BRUZ-REEL-ND; Supplier 2: Mouser; Supplier Part Number 2: 584-AD5328BRUZ-R; Packing: Reel; RoHS: Y; Mounting Technology: Surface Mount; Code_JEDEC: MO-153-AB; ComponentLink1Description: Manufacturer URL; ComponentLink1URL: http://www.analog.com/en/index.html; ComponentLink2Description: Datasheet; ComponentLink2URL: http://www.analog.com/static/imported-files/data_sheets/AD5308_5318_5328.pdf; ComponentLink3Description: Package Specification; ComponentLink3URL: http://www.analog.com/static/imported-files/packages/36244347913743854010197452789RU16.pdf; ComponentLink4Description: Product URL; ComponentLink4URL: http://www.analog.com/en/digital-to-analog-converters/da-converters/ad5328/products/product.html
footprint RU-16_N (TSOP, 16-Leads, Body 5x4.4mm, Pitch 0.65mm, IPC Medium Density)
footprint RU-16_L (TSOP, 16-Leads, Body 5x4.4mm, Pitch 0.65mm, IPC High Density)
footprint RU-16_M (TSOP, 16-Leads, Body 5x4.4mm, Pitch 0.65mm, IPC Low Density)
pins: 1 ~{LDAC} (in) "This active low control input transfers the contents of the input registers to their respective DAC registers. Pulsing this pin low allows any or all DAC registers to be updated if the input registers have new data. This (See Datasheet)", 2 ~{SYNC} (in) "Active Low Control Input. This is the frame synchronization signal for the input data. When S\Y\N\C\ goes low, it powers on the SCLK and DIN buffers and enables the input shift register. Data is transferred in on the falling (See Datasheet)", 3 VDD (power) "Power Supply Input. These parts can be operated from 2.5 V to 5.5 V, and the supply should be decoupled with a 10 uF capacitor in parallel with a 0.1 uF capacitor to GND.", 4 VOUTA (hiz) "Buffered Analog Output Voltage from DAC A. The output amplifier has rail-to-rail operation.", 5 VOUTB (hiz) "Buffered Analog Output Voltage from DAC B. The output amplifier has rail-to-rail operation.", 6 VOUTC (hiz) "Buffered Analog Output Voltage from DAC C. The output amplifier has rail-to-rail operation.", 7 VOUTD (hiz) "Buffered Analog Output Voltage from DAC D. The output amplifier has rail-to-rail operation.", 8 VREFABCD (in) "Reference Input Pin for DACs A, B, C, and D. It can be configured as a buffered, unbuffered, or VDD input to the four DACs, depending on the state of the BUF and VDD control bits. It has an input range from 0.25 V to VDD in (See Datasheet)", 9 VREFEFGH (in) "Reference Input Pin for DACs E, F, G, and H. It can be configured as a buffered, unbuffered, or VDD input to the four DACs, depending on the state of the BUF and VDD control bits. It has an input range from 0.25 V to VDD in (See Datasheet)", 10 VOUTE (hiz) "Buffered Analog Output Voltage from DAC E. The output amplifier has rail-to-rail operation.", 11 VOUTF (hiz) "Buffered Analog Output Voltage from DAC F. The output amplifier has rail-to-rail operation.", 12 VOUTG (hiz) "Buffered Analog Output Voltage from DAC G. The output amplifier has rail-to-rail operation.", 13 VOUTH (hiz) "Buffered Analog Output Voltage from DAC H. The output amplifier has rail-to-rail operation.", 14 GND (power) "Ground Reference Point for All Circuitry on the Part.", 15 DIN (in) "Serial Data Input. This device has a 16-bit shift register. Data is clocked into the register on the falling edge of the serial clock input. The DIN input buffer is powered down after each write cycle.", 16 SCLK (in) "Serial Clock Input. Data is clocked into the input shift register on the falling edge of the serial clock input. Data can be transferred at rates up to 30 MHz. The SCLK input buffer is powered down after each write cycle."

## AD5328BRUZ-REEL7
designator U?
Octal 12-Bit Voltage Output Digital-to-Analog Converter, 2.5 to 5.5 V, -40 to +125 degC, RU-16, Pb-Free, Reel; Generic Part Number: AD5328; Manufacturer: Analog Devices; PartNumber: AD5328BRUZ-REEL7; # DAC Outputs: 8; Max V+: 5.5V; Op Pwr Diss: 5mW; Resolution (Bits): 12; Settling Time: 6µs; Single Supply: Yes; DatasheetVersion: Rev.F; PackageVersion: Nov-2002; PackageReference: RU-16; PackageDescription: 16-Lead Thin Shrink Small Outline Package [TSSOP]; Supplier 1: Digi-Key; Supplier Part Number 1: AD5328BRUZ-REEL7TR-ND; Supplier 2: Digi-Key; Supplier Part Number 2: AD5328BRUZ-REEL7CT-ND; Supplier 3: Digi-Key; Supplier Part Number 3: AD5328BRUZ-REEL7DKR-ND; Supplier 4: Mouser; Supplier Part Number 4: 584-AD5328BRUZ-R7; Packing: Reel; RoHS: Y; Mounting Technology: Surface Mount; Code_JEDEC: MO-153-AB; ComponentLink1Description: Manufacturer URL; ComponentLink1URL: http://www.analog.com/en/index.html; ComponentLink2Description: Datasheet; ComponentLink2URL: http://www.analog.com/static/imported-files/data_sheets/AD5308_5318_5328.pdf; ComponentLink3Description: Package Specification; ComponentLink3URL: http://www.analog.com/static/imported-files/packages/36244347913743854010197452789RU16.pdf; ComponentLink4Description: Product URL; ComponentLink4URL: http://www.analog.com/en/digital-to-analog-converters/da-converters/ad5328/products/product.html
footprint RU-16_N (TSOP, 16-Leads, Body 5x4.4mm, Pitch 0.65mm, IPC Medium Density)
footprint RU-16_L (TSOP, 16-Leads, Body 5x4.4mm, Pitch 0.65mm, IPC High Density)
footprint RU-16_M (TSOP, 16-Leads, Body 5x4.4mm, Pitch 0.65mm, IPC Low Density)
pins: 1 ~{LDAC} (in) "This active low control input transfers the contents of the input registers to their respective DAC registers. Pulsing this pin low allows any or all DAC registers to be updated if the input registers have new data. This (See Datasheet)", 2 ~{SYNC} (in) "Active Low Control Input. This is the frame synchronization signal for the input data. When S\Y\N\C\ goes low, it powers on the SCLK and DIN buffers and enables the input shift register. Data is transferred in on the falling (See Datasheet)", 3 VDD (power) "Power Supply Input. These parts can be operated from 2.5 V to 5.5 V, and the supply should be decoupled with a 10 uF capacitor in parallel with a 0.1 uF capacitor to GND.", 4 VOUTA (hiz) "Buffered Analog Output Voltage from DAC A. The output amplifier has rail-to-rail operation.", 5 VOUTB (hiz) "Buffered Analog Output Voltage from DAC B. The output amplifier has rail-to-rail operation.", 6 VOUTC (hiz) "Buffered Analog Output Voltage from DAC C. The output amplifier has rail-to-rail operation.", 7 VOUTD (hiz) "Buffered Analog Output Voltage from DAC D. The output amplifier has rail-to-rail operation.", 8 VREFABCD (in) "Reference Input Pin for DACs A, B, C, and D. It can be configured as a buffered, unbuffered, or VDD input to the four DACs, depending on the state of the BUF and VDD control bits. It has an input range from 0.25 V to VDD in (See Datasheet)", 9 VREFEFGH (in) "Reference Input Pin for DACs E, F, G, and H. It can be configured as a buffered, unbuffered, or VDD input to the four DACs, depending on the state of the BUF and VDD control bits. It has an input range from 0.25 V to VDD in (See Datasheet)", 10 VOUTE (hiz) "Buffered Analog Output Voltage from DAC E. The output amplifier has rail-to-rail operation.", 11 VOUTF (hiz) "Buffered Analog Output Voltage from DAC F. The output amplifier has rail-to-rail operation.", 12 VOUTG (hiz) "Buffered Analog Output Voltage from DAC G. The output amplifier has rail-to-rail operation.", 13 VOUTH (hiz) "Buffered Analog Output Voltage from DAC H. The output amplifier has rail-to-rail operation.", 14 GND (power) "Ground Reference Point for All Circuitry on the Part.", 15 DIN (in) "Serial Data Input. This device has a 16-bit shift register. Data is clocked into the register on the falling edge of the serial clock input. The DIN input buffer is powered down after each write cycle.", 16 SCLK (in) "Serial Clock Input. Data is clocked into the input shift register on the falling edge of the serial clock input. Data can be transferred at rates up to 30 MHz. The SCLK input buffer is powered down after each write cycle."

## AD5330BRUZ
designator U?
Single 8-Bit Digital-to-Analog Converter, 2.5 to 5.5 V, -40 to +105 degC, RU-20, Pb-Free, Tube; Generic Part Number: AD5330; Manufacturer: Analog Devices; PartNumber: AD5330BRUZ; # DAC Outputs: 1; Max V+: 5.5V; Op Pwr Diss: 1.25mW; Resolution (Bits): 8; Settling Time: 6µs; Single Supply: Yes; DatasheetVersion: Rev.A; PackageVersion: 2000; PackageReference: RU-20; PackageDescription: 20-Lead Thin Shrink Small Outline Package [TSSOP]; Supplier 1: Digi-Key; Supplier Part Number 1: AD5330BRUZ-ND; Supplier 2: Farnell; Supplier Part Number 2: 9604170; Supplier 3: Newark; Supplier Part Number 3: 19M0813; Supplier 4: Mouser; Supplier Part Number 4: 584-AD5330BRUZ; Packing: Tube; RoHS: Y; Mounting Technology: Surface Mount; Code_JEDEC: MO-153AC; ComponentLink1Description: Manufacturer URL; ComponentLink1URL: http://www.analog.com/en/index.html; ComponentLink2Description: Datasheet; ComponentLink2URL: http://www.analog.com/static/imported-files/data_sheets/AD5330_5331_5340_5341.pdf; ComponentLink3Description: Package Specification; ComponentLink3URL: http://www.analog.com/static/imported-files/packages/364515793657813558433715854054607941441RU20.pdf; ComponentLink4Description: Product URL; ComponentLink4URL: http://www.analog.com/en/digital-to-analog-converters/da-converters/ad5330/products/product.html
footprint RU-20_N (TSOP, 20-Leads, Body 6.5x4.4mm, Pitch 0.65mm, IPC Medium Density)
footprint RU-20_L (TSOP, 20-Leads, Body 6.5x4.4mm, Pitch 0.65mm, IPC High Density)
footprint RU-20_M (TSOP, 20-Leads, Body 6.5x4.4mm, Pitch 0.65mm, IPC Low Density)
pins: 1 BUF (in) "Buffer Control Pin. This pin controls whether the reference input to the DAC is buffered or unbuffered.", 2 NC "No Connect.", 3 VREF (in) "Reference Input.", 4 VOUT (hiz) "Output of DAC. Buffered output with rail-to-rail operation.", 5 GND (power) "Ground reference point for all circuitry on the part.", 6 ~{CS} (in) "Active Low Chip Select Input. This is used in conjunction with W\R\ to write data to the parallel interface.", 7 ~{WR} (in) "Active Low Write Input. This is used in conjunction with C\S\ to write data to the parallel interface.", 8 GAIN (in) "Gain Control Pin. This controls whether the output range from the DAC is 0 V to VREF or 0 V to 2 x VREF.", 9 ~{CLR} (in) "Asynchronous active low control input that clears all input registers and DAC registers to zero.", 10 ~{LDAC} (in) "Active low control input that updates the DAC registers with the contents of the input registers", 11 ~{PD} (in) "Power-Down Pin. This active low control pin puts the DAC into power-down mode.", 12 VDD (power) "Power Supply Input. These parts can operate from 2.5 V to 5.5 V and the supply should be decoupled with a 10 uF capacitor in parallel with a 0.1 uF capacitor to GND.", 13 DB0 (in) "Parallel Data Input.", 14 DB1 (in) "Parallel Data Input.", 15 DB2 (in) "Parallel Data Input.", 16 DB3 (in) "Parallel Data Input.", 17 DB4 (in) "Parallel Data Input.", 18 DB5 (in) "Parallel Data Input.", 19 DB6 (in) "Parallel Data Input.", 20 DB7 (in) "Parallel Data Input. DB7 is the MSB of these eight bits."